# EAGLE library part SWD-HEADER-2X5-50MILS (library yapo)
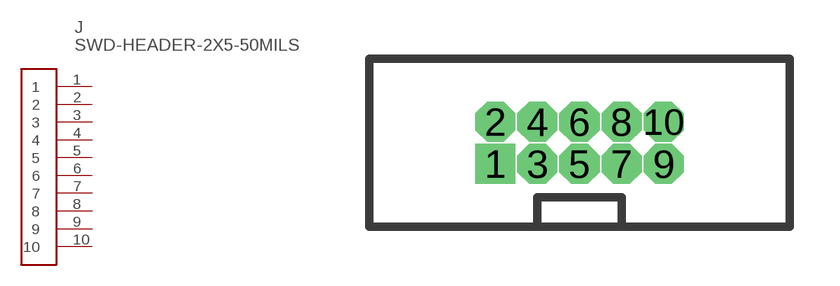
[diagram p76: symbol with the pads of HEADER-2X5-50MIL; footprint HEADER-2X5-50MIL]

Designator prefix J

## SWD-HEADER-2X5-50MILS  [HEADER-2X5-50MIL]
1  1
2  2
3  3
4  4
5  5
6  6
7  7
8  8
9  9
10  10

## Footprint HEADER-2X5-50MIL (pad centres in mm)
drill 0.7 pad 1.016 square: 1 -2.54,-0.635
drill 0.7 pad 1.016 octagon: 2 -2.54,0.635; 3 -1.27,-0.635; 4 -1.27,0.635; 5 0,-0.635; 6 0,0.635; 7 1.27,-0.635; 8 1.27,0.635; 9 2.54,-0.635; 10 2.54,0.635